# EAGLE library part RJ45 (library MRDT-Connectors)
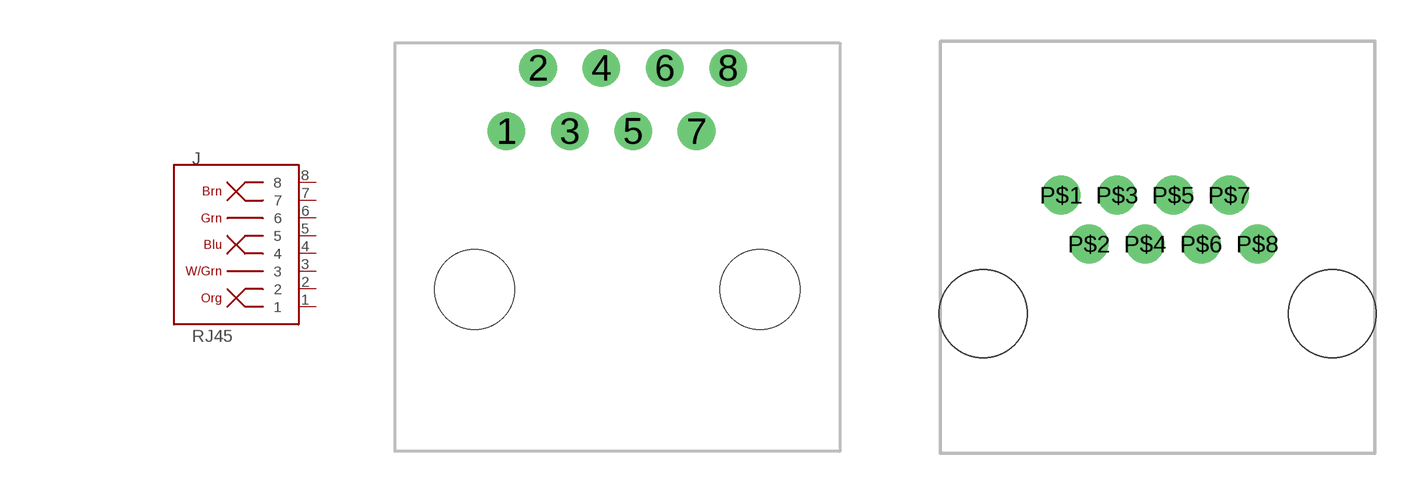
[diagram p2: symbol with the pads of RJ45-CAT5E; footprints RJ45-CAT5E, PULSE-E5J88-00LJG2-L]

Designator prefix J

## RJ45RJ45  [RJ45-CAT5E]
1  1
2  2
3  3
4  4
5  5
6  6
7  7
8  8

## RJ45PULSE-E5J88-00LJG2-L  [PULSE-E5J88-00LJG2-L]
P$1  8
P$2  7
P$3  6
P$4  5
P$5  4
P$6  3
P$7  2
P$8  1

## RJ45KEYSTONE-942  [KEYSTONE-942]
Pads as for PULSE-E5J88-00LJG2-L

## RJ45FCI-54602-908LF  [FCI-54602-908LF]
Pads as for RJ45-CAT5E

## RJ45KEYSTONE-949  [KEYSTONE-949]
P$1  1
P$2  2
P$3  3
P$4  4
P$5  5
P$6  6
P$7  7
P$8  8

## Footprint RJ45-CAT5E (pad centres in mm)
drill 1: 1 -4.445,4.655; 2 -3.175,7.195; 3 -1.905,4.655; 4 -0.635,7.195; 5 0.635,4.655; 6 1.905,7.195; 7 3.175,4.655; 8 4.445,7.195
hole 3.2 at 5.715,-1.695
hole 3.2 at -5.715,-1.695

## Footprint PULSE-E5J88-00LJG2-L (pad centres in mm)
drill 0.9: P$1 4.39,9.4; P$2 5.41,7.62; P$3 6.43,9.4; P$4 7.45,7.62; P$5 8.47,9.4; P$6 9.49,7.62; P$7 10.51,9.4; P$8 11.53,7.62
hole 3.2 at 14.25,5.08
hole 3.2 at 1.55,5.08

## Footprint KEYSTONE-942 (pad centres in mm)
drill 0.9: P$1 3.8,2.289; P$2 4.816,4.829; P$3 5.832,2.289; P$4 6.848,4.829; P$5 7.864,2.289; P$6 8.88,4.829; P$7 9.896,2.289; P$8 10.912,4.829
hole 2.413 at -0.023,-0.023
hole 2.413 at 14.76,-0.023

## Footprint FCI-54602-908LF (pad centres in mm)
drill 1 square: 1 -4.445,6.35
drill 1: 2 -3.175,8.89; 3 -1.905,6.35; 4 -0.635,8.89; 5 0.635,6.35; 6 1.905,8.89; 7 3.175,6.35; 8 4.445,8.89
hole 3.2 at -5.715,0
hole 3.2 at 5.715,0

## Footprint KEYSTONE-949 (pad centres in mm)
drill 0.9: P$1 1.46,6.35; P$2 2.731,8.89; P$3 4,6.35; P$4 5.271,8.89; P$5 6.54,6.35; P$6 7.811,8.89; P$7 9.081,6.35; P$8 10.351,8.89
hole 3.251 at 0,0
hole 3.251 at 11.43,0